# Altium schematic symbol library LampaASblibrary.SchLib: 6 symbols
Pins are listed as number, name and electrical type; pins without a type are passive.

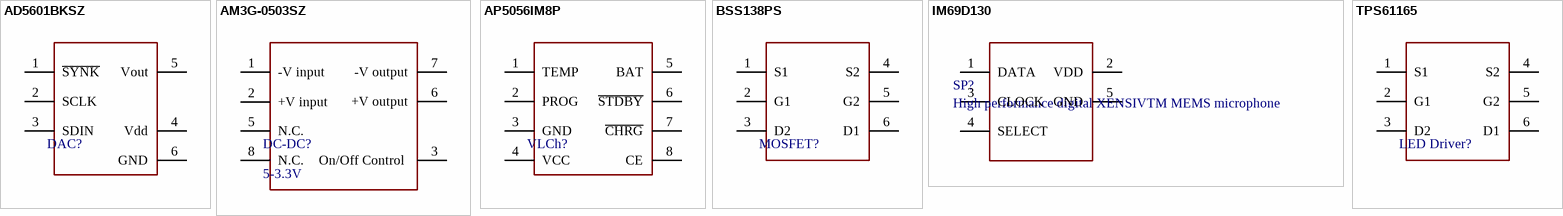
[diagram p0: symbols AD5601BKSZ to TPS61165]

## AD5601BKSZ
designator DAC?
The AD5601/AD5611/AD5621, members of the nanoDAC® / family, are single, 8-/10-/12-bit, buffered voltage output DACs / that operate from a single 2.7 V to 5.5 V supply, consuming / typically 75 μA at 5 V.; Manufacture: ANALOG DEVICES; Model: AD5601BKSZ; Supply Voltage: 2.7-5.5V; Output current: 60-100mA; Value: 8 bit; HelpURL: https://www.analog.com/en/products/ad5601.html?doc=AD5601_5611_5621.pdf; Case: SC70-6 pin
footprint 6-Lead Plastic SC70
pins: 1 ~{SYNK}, 2 SCLK, 3 SDIN, 4 Vdd, 5 Vout, 6 GND

## AM3G-0503SZ
designator DC-DC?, comment 5-3.3V
3 Watt | DC-DC Converter; Manufacture: ANALOG DEVICES; Model: AM3G-0503SZ; Supply Voltage: 4.5-9V; Output current: 0.7A; Value: 3W; HelpURL: http://www.aimtec.com/am3g-0503sz-3w-4-5-9vdcv-input-voltage-3-3v-output-voltage-0v-isolation-sip8-dc-dc-isolated-power-supply; Case: SIP8
footprint 8 Pin SIP
pins: 1 -V input, 2 +V input, 3 On/Off Control , 5 N.C., 6 +V output, 7 -V output, 8 N.C.

## AP5056IM8P
designator VLCh?
The AP5056 is a complete constant current & constant / voltage linear charger for single cell lithium-ion batteries.; Model: AP5056IM8P; Supply Voltage: 4.25-6.5V; BAT pin Current: 1400mA; HelpURL: -; Case: MSOP8-PP; Manufacture: -
footprint MSOP8
pins: 1 TEMP, 2 PROG, 3 GND, 4 VCC, 5 BAT, 6 ~{STDBY}, 7 ~{CHRG}, 8 CE

## BSS138PS
designator MOSFET?
Dual N-channel enhancement mode Field-Effect Transistor (FET) in a very small / SOT363 (SC-88) Surface-Mounted Device (SMD) plastic package using Trench MOSFET / technology.; Manufacture: NEXPERIA; Model: BSS138PS; MAX drain-source voltage: 60V; MAX gate-source voltage: 40V; MAX drain current: 320 mA; HelpURL: -; Case: SOT-363(cs_70)
footprint SC-70-6
pins: 1 S1, 2 G1, 3 D2, 4 S2, 5 G2, 6 D1

## IM69D130
designator SP?, comment High performance digital XENSIVTM MEMS microphone
The IM69D130 is designed for applications where low self-noise (high SNR), wide dynamic range, low distortions / and a high acoustic overload point is required; Short Circuit Current: 20 mA; Voltage on any Pin Vmax: 4 V; Supply Voltage VDD: 3.6V; Clock Rise/Fall Time: 13 ns
footprint Model Name (Footprint not found)
pins: 1 DATA, 2 VDD "Power supply", 3 CLOCK "PDM clock input", 4 SELECT "PDM left/right select", 5 GND

## TPS61165
designator LED Driver?
With a 40-V rated integrated switch FET, the TPS61165 device is a boost converter that drives LEDs in series. The boost converter runs at a / 1.2-MHz fixed switching frequency with 1.2-A switch current limit, allowing the use of a high-brightness LED in general lighting.; Manufacture: TEXAS INSTRUMENTS; Model: TPS61165DBVT; Vin (Max) (V): 18V; Vout (Max) (V): 38V; LED current per channel (mA): 400; HelpURL: -; Case: SOT-23
footprint sot-23 6
pins: 1 S1, 2 G1, 3 D2, 4 S2, 5 G2, 6 D1